# Altium footprint library Molk.PcbLib: 1 footprints
Each footprint in its own frame and in the unit in brackets; x right, y up, seen from the top. Pads: shape width x height; smd on the part's side, far side on the other; paste and mask are expansions set on the pad; w line width, h text height; cw(c..) or ccw(c..) is an arc to the next point about the centre after c.
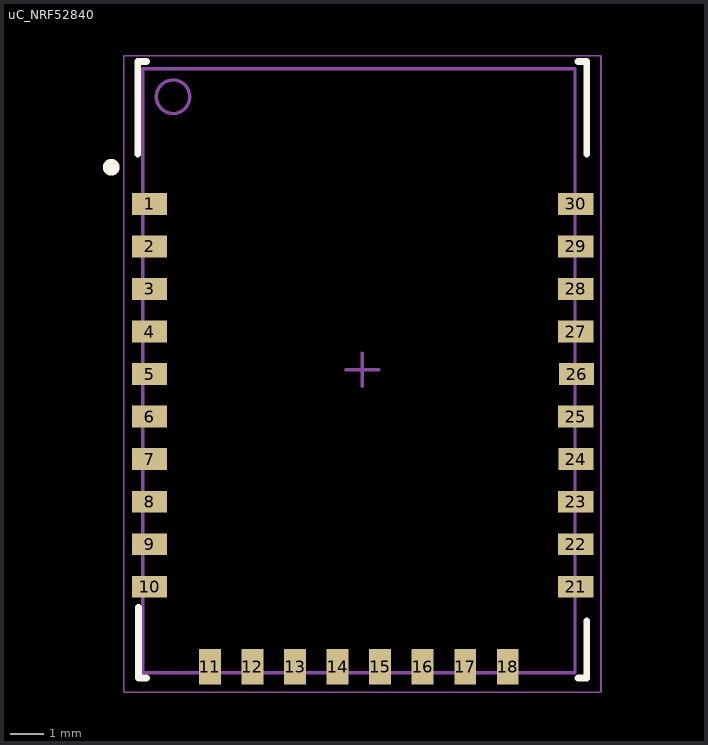
[diagram p0: the footprint, top view; thin cyan lines are the x and y axes]

## uC_NRF52840 [mm] "QFN, 40-Leads, Body 13,05x18,05mm, Pitch 1,27mm, Thermal Pad 8,90x8,90mm, IPC Medium Density"
height 3.1
pads (28):
  rect 1.05x0.65 smd: 1(-38.227,49.327) 2(-38.227,48.057) 3(-38.227,46.787) 4(-38.227,45.517) 5(-38.227,44.247) 6(-38.227,42.977) 7(-38.227,41.707) 8(-38.227,40.437) 9(-38.227,39.167) 10(-38.227,37.897) 21(-25.502,37.897) 22(-25.502,39.167) 23(-25.502,40.437) 24(-25.5,41.708) 25(-25.502,42.977) 26(-25.476,44.247) 27(-25.502,45.517) 28(-25.502,46.787) 29(-25.502,48.057) 30(-25.502,49.327)
  rect 0.65x1.05 smd: 11(-36.424,35.509) 12(-35.154,35.509) 13(-33.884,35.509) 14(-32.614,35.509) 15(-31.344,35.509) 16(-30.074,35.509) 17(-28.804,35.509) 18(-27.534,35.509)
Top Overlay:
  circle w0.25: c-39.37,50.419 r0.125
  lines w0.2: -38.575,50.815 -38.575,53.575 -38.315,53.575 ; -38.557,37.287 -38.557,35.175 -38.315,35.175 ; -25.435,35.175 -25.175,35.175 -25.175,36.881 ; -25.435,53.575 -25.175,53.575 -25.175,50.815
Mechanical 13:
  circle w0.1: c-37.525,52.525 r0.5
  lines w0.1: -38.425,35.325 -25.527,35.325 -25.527,53.365 -38.425,53.365 -38.425,35.325
Mechanical 15:
  lines w0.05: -39,34.75 -24.75,34.75 -24.75,53.746 -39,53.746 -39,34.75
  lines w0.1: -32.375,44.375 -31.375,44.375 ; -31.875,43.875 -31.875,44.875
3D body: height 3.1, standoff 0.01, extent -38.425,35.306 -25.603,53.289